# EAGLE library part 693010020611 (library WR-CRD)
WR-CRD SIM Card Connectors Characteristics Available in three form factors: Mini, Micro and Nano Available in three entry types: Push-Pull, Hinge and Push-Push Compatible with SIM and MegaSIM standards Applications Mobile Broadband Communication Internet of Things Fleet Management Security and Authentication Machine-to-Machine Communication <https://www.we-online.com/components/media/o732987v209%20693021020811_Multi-parts.jpg> Details see: www.we-online.com/components/products/WR_CRD_CARD_CONNECTOR_SIM <www.we-online.com/catalog/WR_CRD_CARD_CONNECTOR_SIM/?utm_source=eagle_model&utm_medium=description_link&utm_campaign=eisos_eagle> Updated by Ella Wu 2021-05-27 2021 (C) Würth Elektronik
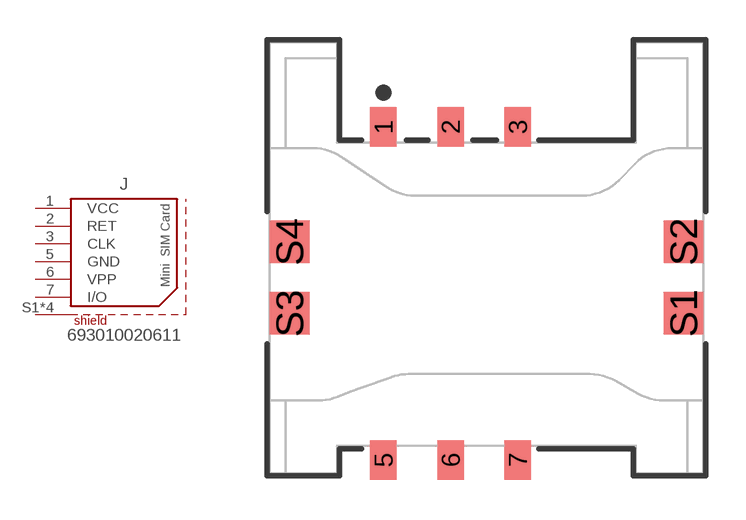
[diagram p3: symbol with the pads of 693010020611; footprint 693010020611]

Designator prefix J

## 693010020611 (DATASHEET-URL: https://www.we-online.com/redexpert/spec/693010020611?ae; DURABILITY: 5000 Mating cycles; GERDER: Socket; MOUNT: SMT; PART-NUMBER: 693010020611; PINS: 6pcs; SIZE: Mini SIM; TYPE: Header; VALUE: 693010020611)  [693010020611]
1  VCC  pas
2  RET  pas
3  CLK  pas
5  GND  pas
6  VPP  pas
7  I/O  pas
S1  SHIELD  pas
S2  SHIELD  pas
S3  SHIELD  pas
S4  SHIELD  pas

## Footprint 693010020611 (pad centres in mm)
WR-CRD SIM Card Connector (Mini SIM) Header Shielded ,6Pins
smd 1 x 1.5: 1 -3.9,4.95; 2 -1.36,4.95; 3 1.18,4.95; 5 -3.9,-7.65; 6 -1.36,-7.65; 7 1.18,-7.65
smd 1.5 x 1.6: S1 7.45,-2.1; S2 7.45,0.6; S3 -7.45,-2.1; S4 -7.45,0.6